# EAGLE library part STM32F42X_43X_LQFP100 (library keves)
STM32F42x_43x_LQFP100 edit this description Auto generated by make-symbol-device-package-bsdl.ulp Rev. 44 Source: STM32F42x_43x_LQFP100.bsd
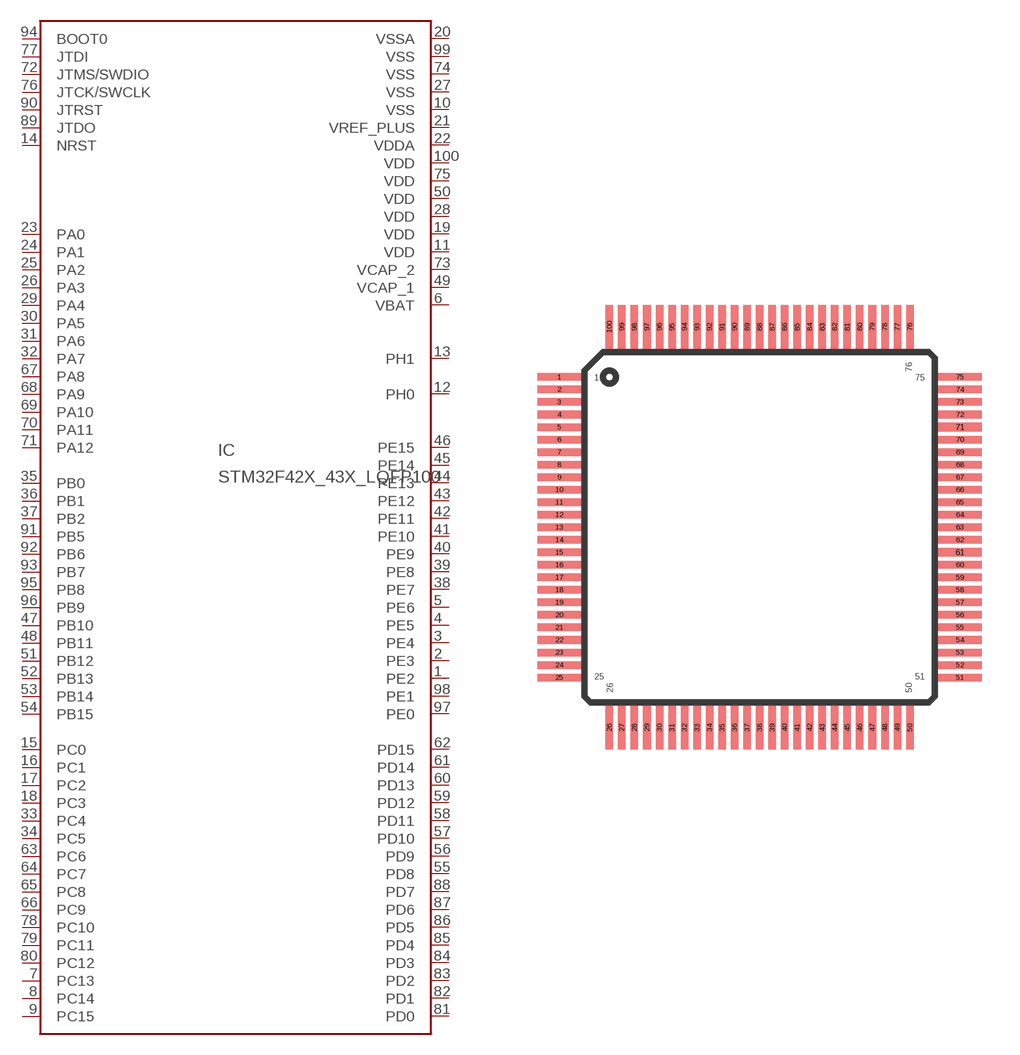
[diagram p32: symbol with the pads of TQFP100; footprint TQFP100]

Designator prefix IC

## STM32F42X_43X_LQFP100  [TQFP100]
1  PE2
2  PE3
3  PE4
4  PE5
5  PE6
6  VBAT  pas
7  PC13
8  PC14
9  PC15
10  VSS  pwr
11  VDD  pwr
12  PH0
13  PH1
14  NRST  in
15  PC0
16  PC1
17  PC2
18  PC3
19  VDD  pwr
20  VSSA  pwr
21  VREF_PLUS  pas
22  VDDA  pwr
23  PA0
24  PA1
25  PA2
26  PA3
27  VSS  pwr
28  VDD  pwr
29  PA4
30  PA5
31  PA6
32  PA7
33  PC4
34  PC5
35  PB0
36  PB1
37  PB2
38  PE7
39  PE8
40  PE9
41  PE10
42  PE11
43  PE12
44  PE13
45  PE14
46  PE15
47  PB10
48  PB11
49  VCAP_1  pas
50  VDD  pwr
51  PB12
52  PB13
53  PB14
54  PB15
55  PD8
56  PD9
57  PD10
58  PD11
59  PD12
60  PD13
61  PD14
62  PD15
63  PC6
64  PC7
65  PC8
66  PC9
67  PA8
68  PA9
69  PA10
70  PA11
71  PA12
72  JTMS/SWDIO  in
73  VCAP_2  pas
74  VSS  pwr
75  VDD  pwr
76  JTCK/SWCLK  in
77  JTDI  in
78  PC10
79  PC11
80  PC12
81  PD0
82  PD1
83  PD2
84  PD3
85  PD4
86  PD5
87  PD6
88  PD7
89  JTDO  out
90  JTRST  in
91  PB5
92  PB6
93  PB7
94  BOOT0  in
95  PB8
96  PB9
97  PE0
98  PE1
99  VSS  pwr
100  VDD  pwr

## Footprint TQFP100 (pad centres in mm)
smd 1.754 x 0.3: 1 -6.73,4.73; 2 -6.73,4.23; 3 -6.73,3.73; 4 -6.73,3.23; 5 -6.73,2.73; 6 -6.73,2.23; 7 -6.73,1.73; 8 -6.73,1.23; 9 -6.73,0.73; 10 -6.73,0.23; 11 -6.73,-0.27; 12 -6.73,-0.77; 13 -6.73,-1.27; 14 -6.73,-1.77; 15 -6.73,-2.27; 16 -6.73,-2.77; 17 -6.73,-3.27; 18 -6.73,-3.77; 19 -6.73,-4.27; 20 -6.73,-4.77; 21 -6.73,-5.27; 22 -6.73,-5.77; 23 -6.73,-6.27; 24 -6.73,-6.77; 25 -6.73,-7.27; 51 9.27,-7.27; 52 9.27,-6.77; 53 9.27,-6.27; 54 9.27,-5.77; 55 9.27,-5.27; 56 9.27,-4.77; 57 9.27,-4.27; 58 9.27,-3.77; 59 9.27,-3.27; 60 9.27,-2.77; 62 9.27,-1.77; 63 9.27,-1.27; 64 9.27,-0.77; 65 9.27,-0.27; 66 9.27,0.23; 67 9.27,0.73; 68 9.27,1.23; 69 9.27,1.73; 70 9.27,2.23; 72 9.27,3.23; 73 9.27,3.73; 74 9.27,4.23; 75 9.27,4.73
smd 0.3 x 1.754: 26 -4.73,-9.27; 27 -4.23,-9.27; 28 -3.73,-9.27; 29 -3.23,-9.27; 30 -2.73,-9.27; 31 -2.23,-9.27; 32 -1.73,-9.27; 33 -1.23,-9.27; 34 -0.73,-9.27; 35 -0.23,-9.27; 36 0.27,-9.27; 37 0.77,-9.27; 38 1.27,-9.27; 39 1.77,-9.27; 40 2.27,-9.27; 41 2.77,-9.27; 42 3.27,-9.27; 43 3.77,-9.27; 44 4.27,-9.27; 45 4.77,-9.27; 46 5.27,-9.27; 47 5.77,-9.27; 48 6.27,-9.27; 49 6.77,-9.27; 50 7.27,-9.27; 76 7.27,6.73; 77 6.77,6.73; 78 6.27,6.73; 79 5.77,6.73; 80 5.27,6.73; 81 4.77,6.73; 82 4.27,6.73; 83 3.77,6.73; 84 3.27,6.73; 85 2.77,6.73; 86 2.27,6.73; 87 1.77,6.73; 88 1.27,6.73; 89 0.77,6.73; 90 0.27,6.73; 91 -0.23,6.73; 92 -0.73,6.73; 93 -1.23,6.73; 94 -1.73,6.73; 95 -2.23,6.73; 96 -2.73,6.73; 97 -3.23,6.73; 98 -3.73,6.73; 99 -4.23,6.73; 100 -4.73,6.73
smd 1.754 x 0.35: 61 9.27,-2.27; 71 9.27,2.73